# Altium footprint library 通讯接口.PcbLib: 40 footprints (part 2 of 3)
Each footprint in its own frame and in the unit in brackets; x right, y up, seen from the top. Pads: shape width x height; smd on the part's side, far side on the other; paste and mask are expansions set on the pad; w line width, h text height; cw(c..) or ccw(c..) is an arc to the next point about the centre after c.
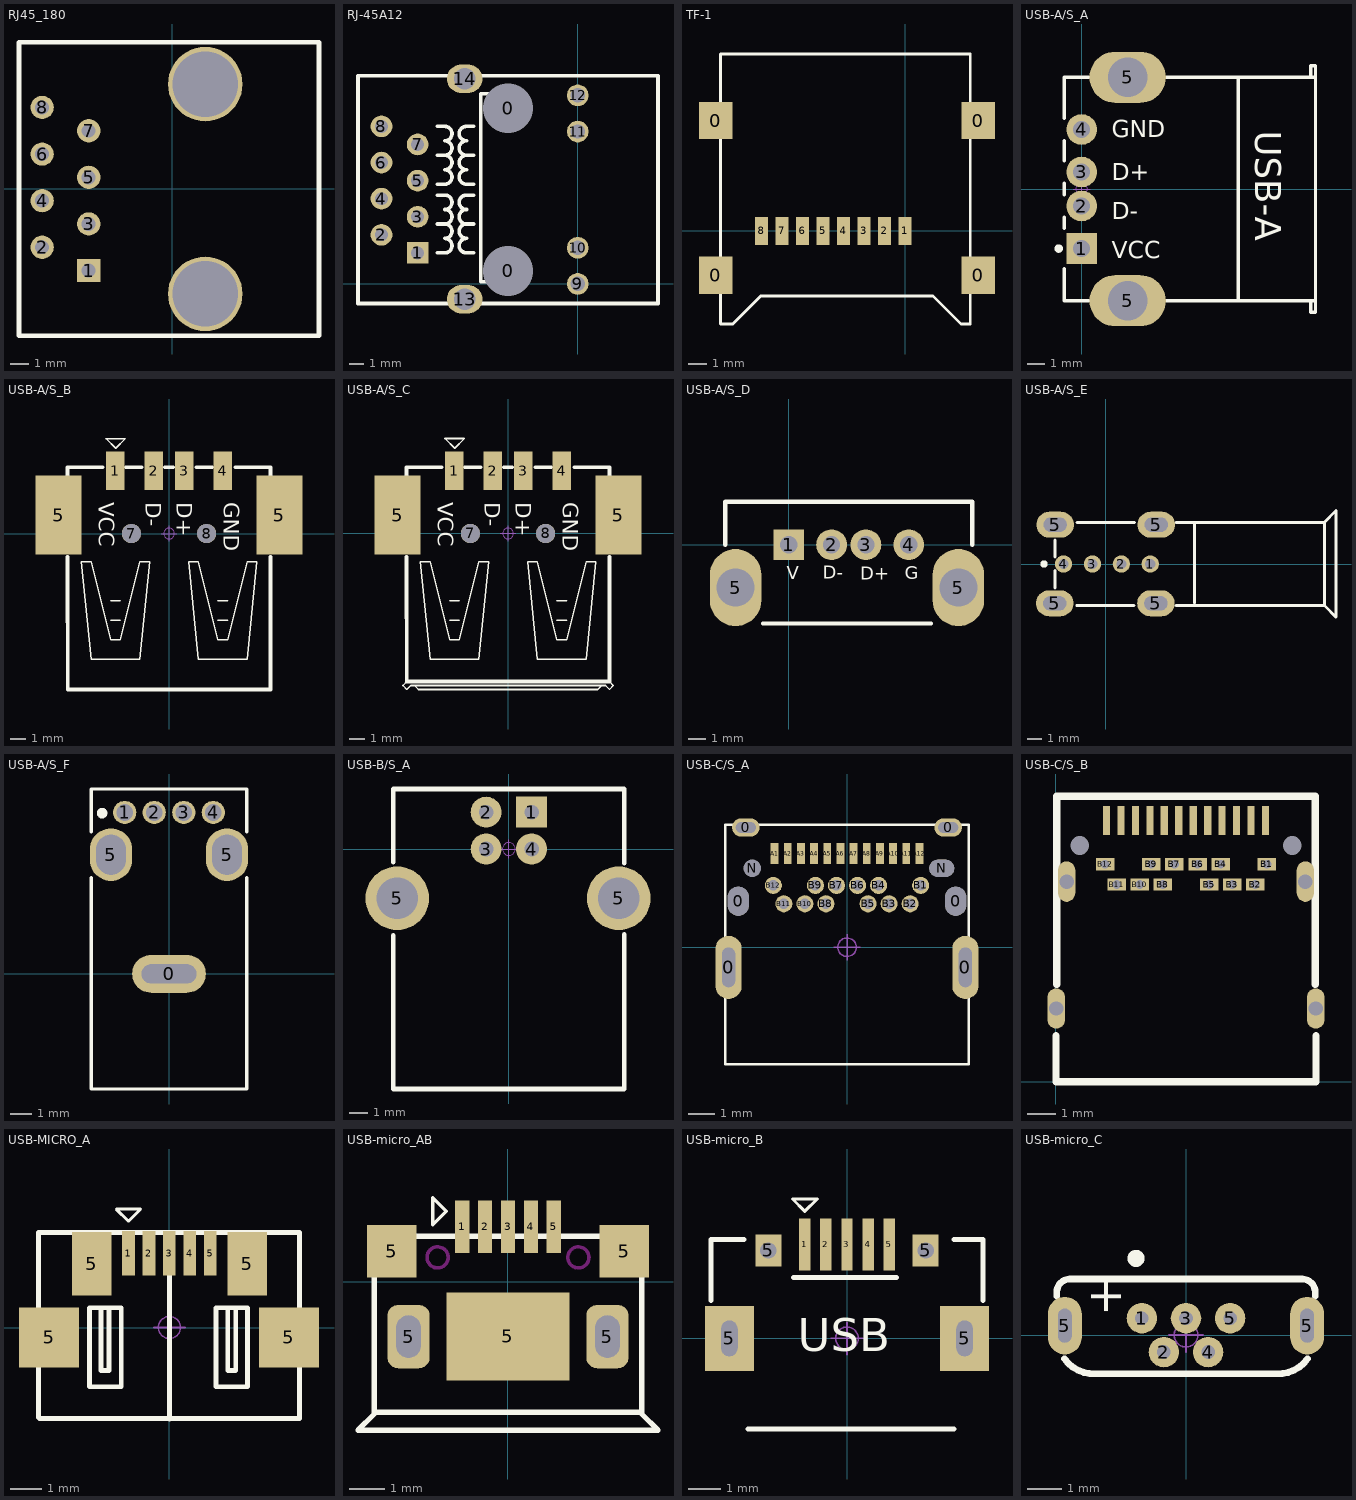
[diagram p1: the footprints below, top view; thin cyan lines are the x and y axes]

## RJ45_180 [mil] "网线接口"
height 53.15
pads (10):
  rect 50x50 hole 30: 1(-179.13,-175)
  round 50 hole 30: 2(-279.13,-125) 3(-179.13,-75) 4(-279.13,-25) 5(-179.13,25) 6(-279.13,75) 7(-179.13,125) 8(-279.13,175)
  round 160 hole 140: ""(70.87,-225) ""(70.87,225)
Top Overlay:
  lines w10: -328.74,-314.96 -328.74,314.96 314.96,314.96 314.96,-314.96 -328.74,-314.96
3D body "RJ-45, 8P8C, MOD JACK, TOP ENTRY, CAT 5E, RIA AJT26A8813.STEP": height 641.73, standoff -129.92, extent -313.88,-296.61 308.16,313.62

## RJ-45A12 [mil] "网线接口"
pads (16):
  round 130 hole 137.8: 0(-192.91,35.83) 0(-192.91,485.83)
  rect 60x60 hole 35.43: 1(-442.91,85.83)
  round 60 hole 35.43: 2(-542.91,135.83) 3(-442.91,185.83) 4(-542.91,235.83) 5(-442.91,285.83) 6(-542.91,335.83) 7(-442.91,385.83) 8(-542.91,435.83)
  round 60 hole 40: 9(0,0) 10(0,100) 11(0,421.65) 12(0,521.65)
  oval 98.43x78.74 hole 59.06: 13(-312.99,-42.13) 14(-312.99,567.32)
Top Overlay:
  lines w10: -387.91,85.83 -367.91,85.83 ccw(c-367.91,105.83) -367.91,125.83 ccw(c-367.91,145.83) -367.91,165.83 ; -387.91,165.83 -367.91,165.83 ; -387.91,245.83 -367.91,245.83 cw(c-367.91,225.83) -367.91,205.83 cw(c-367.91,185.83) -367.91,165.83 ; -387.91,275.83 -367.91,275.83 ccw(c-367.91,295.83) -367.91,315.83 ccw(c-367.91,335.83) -367.91,355.83 ; -387.91,355.83 -367.91,355.83 ; -387.91,435.83 -367.91,435.83 cw(c-367.91,415.83) -367.91,395.83 cw(c-367.91,375.83) -367.91,355.83 ; -287.91,85.83 -307.91,85.83 cw(c-307.91,105.83) -307.91,125.83 cw(c-307.91,145.83) -307.91,165.83 ; -287.91,165.83 -307.91,165.83 ; -287.91,245.83 -307.91,245.83 ccw(c-307.91,225.83) -307.91,205.83 ccw(c-307.91,185.83) -307.91,165.83 ; -287.91,275.83 -307.91,275.83 cw(c-307.91,295.83) -307.91,315.83 cw(c-307.91,335.83) -307.91,355.83 ; -287.91,355.83 -307.91,355.83 ; -287.91,435.83 -307.91,435.83 ccw(c-307.91,415.83) -307.91,395.83 ccw(c-307.91,375.83) -307.91,355.83 ; -247.91,5.83 -267.91,5.83 -267.91,525.83 -247.91,525.83 ; -607.91,-54.17 222,-54.17 222,575.83 -607.91,575.83 -607.91,-54.17
Multi-Layer:
  text "J10" at -517.7,505.32 h25
3D body "HanRun-HR911105A.STEP": height 59.06, standoff -590.55, extent -605.26,-53 237.26,572.19

## TF-1 [mm]
height 2
pads (12):
  rect 1.8x2 smd: 0(-10.168,-2.378) 0(-10.168,5.922) 0(3.932,-2.378) 0(3.932,5.922)
  rect 0.7x1.5 smd: 1(0,0) 2(-1.1,0) 3(-2.2,0) 4(-3.3,0) 5(-4.4,0) 6(-5.5,0) 7(-6.6,0) 8(-7.7,0)
Top Overlay:
  lines w0.152: -9.9,-5 -9.25,-5 -7.75,-3.5 1.5,-3.5 3,-5 3.5,-5 3.5,9.5 0,9.5 -9.9,9.5 -9.9,-5
3D body "User Library-5009010801.STEP": height 1.93, standoff -0.02, extent -10.5,-5 4.1,9.5

## USB-A/S_A [mm] "A型直插母头，"
height 7.01
pads (6):
  rect 1.8x1.8 hole 1: 1(0,-3.5)
  round 1.8 hole 1: 2(0,-1) 3(0,1) 4(0,3.5)
  oval 4.5x3 hole 2.3: 5(2.71,-6.57) 5(2.71,6.57)
Top Overlay:
  circle w0.25: c-1.35,-3.5 r0.125
  lines w0.2: -1.01,-4.7 -1.01,-6.565 0.41,-6.565 ; -1.01,-2.3 -1.01,-1.66 ; -1.01,-0.34 -1.01,0.34 ; -1.01,1.66 -1.01,2.84 ; -1.01,4.16 -1.01,6.565 0.41,6.565 ; 5.01,-6.565 13.752,-6.565 ; 5.01,6.565 13.752,6.565 ; 13.462,-6.565 13.462,-7.25 13.752,-7.25 13.752,7.25 13.462,7.25 13.462,6.565
  lines w0.203: 9.21,-6.565 9.21,6.565
  text "GND" at 1.778,3.048 h1.02
  text "D+" at 1.778,0.508 h1.02
  text "D-" at 1.778,-1.778 h1.02
  text "VCC" at 1.778,-4.064 h1.02
  text "USB-A" at 10.21,3.43 h1.52
Mechanical 15:
  circle w0.05: c0,0 r0.35
  lines w0.05: -0.5,0 0.5,0 ; 0,-0.5 0,0.5
3D body "USB A型 ?": height 6.8, standoff -4.31, extent -0.605,-7.342 13.7,7.342

## USB-A/S_B [mm] "A型贴片母头，"
pads (8):
  rect 1.2x2.5 smd: 1(-3.5,4.1) 2(-1,4.1) 3(1,4.1) 4(3.5,4.1)
  rect 3x5.15 smd: 5(-7.2,1.2) 5(7.2,1.2)
  round 1.25 hole 1.25 unplated: 7(-2.45,0) 8(2.45,0)
Top Overlay:
  lines w0.1: -3.803,-5.649 -3.168,-5.649 ; -3.803,-4.379 -3.168,-4.379 ; 3.182,-5.649 3.817,-5.649 ; 3.182,-4.379 3.817,-4.379 ; -5.708,-1.839 -5.073,-8.189 -1.898,-8.189 -1.263,-1.839 -1.898,-1.839 -3.168,-6.919 -3.803,-6.919 -5.073,-1.839 -5.708,-1.839 ; -4.113,6.19 -3.478,5.555 -2.843,6.19 -4.113,6.19 ; 1.277,-1.839 1.912,-8.189 5.087,-8.189 5.722,-1.839 5.087,-1.839 3.817,-6.919 3.182,-6.919 1.912,-1.839 1.277,-1.839
  lines w0.254: -6.604,-1.524 -6.597,-10.16 6.611,-10.16 6.604,-1.524 ; -6.604,3.81 -6.604,4.318 -4.318,4.318 ; -2.794,4.318 -1.778,4.318 ; -0.254,4.318 0.254,4.318 ; 1.778,4.318 2.794,4.318 ; 4.318,4.318 6.611,4.318 6.604,3.81
  text "GND" at 3.556,2.032 h1.02
  text "D+" at 0.508,2.032 h1.02
  text "D-" at -1.524,2.032 h1.02
  text "VCC" at -4.572,2.032 h1.02
Mechanical 15:
  circle w0.05: c0,0 r0.35
  lines w0.05: -0.5,0 0.5,0 ; 0,-0.5 0,0.5
3D body "USB A型 ?": height 6.9, standoff -0.55, extent -7.75,-9.9 7.75,4.8

## USB-A/S_C [mm] "A型贴片母头，"
pads (8):
  rect 1.2x2.5 smd: 1(-3.5,4.1) 2(-1,4.1) 3(1,4.1) 4(3.5,4.1)
  rect 3x5.15 smd: 5(-7.2,1.2) 5(7.2,1.2)
  round 1.25 hole 1.25 unplated: 7(-2.45,0) 8(2.45,0)
Top Overlay:
  lines w0.1: -6.597,-9.652 -6.851,-9.906 -6.597,-10.16 -6.343,-9.906 -6.089,-9.906 ; -3.803,-5.649 -3.168,-5.649 ; -3.803,-4.379 -3.168,-4.379 ; 3.182,-5.649 3.817,-5.649 ; 3.182,-4.379 3.817,-4.379 ; 6.611,-9.652 6.865,-9.906 6.611,-10.16 6.357,-9.906 6.103,-9.906 ; -6.089,-9.906 6.103,-9.906 ; -6.089,-9.906 -5.835,-10.166 5.849,-10.166 6.103,-9.906 ; -5.708,-1.839 -5.073,-1.839 -3.803,-6.919 -3.168,-6.919 -1.898,-1.839 -1.263,-1.839 -1.898,-8.189 -5.073,-8.189 -5.708,-1.839 ; -4.113,6.19 -2.843,6.19 -3.478,5.555 -4.113,6.19 ; 1.277,-1.839 1.912,-1.839 3.182,-6.919 3.817,-6.919 5.087,-1.839 5.722,-1.839 5.087,-8.189 1.912,-8.189 1.277,-1.839
  lines w0.254: -6.604,-1.524 -6.597,-9.652 ; -6.604,3.81 -6.604,4.318 -4.318,4.318 ; -6.597,-9.652 6.611,-9.652 ; -2.794,4.318 -1.778,4.318 ; -0.254,4.318 0.254,4.318 ; 1.778,4.318 2.794,4.318 ; 4.318,4.318 6.611,4.318 6.604,3.81 ; 6.604,-1.524 6.611,-9.652
  text "VCC" at -4.572,2.032 h1.02
  text "D-" at -1.524,2.032 h1.02
  text "D+" at 0.508,2.032 h1.02
  text "GND" at 3.556,2.032 h1.02
Mechanical 15:
  circle w0.05: c0,0 r0.35
  lines w0.05: -0.5,0 0.5,0 ; 0,-0.5 0,0.5
3D body "USB A型 ?": height 7.4, standoff -0.55, extent -7.75,-9.9 7.75,4.8

## USB-A/S_D [mm] "A型直插母头，"
pads (6):
  rect 1.8x1.8 hole 1: 1(0,0)
  round 1.8 hole 1: 2(2.5,0) 3(4.5,0) 4(7,0)
  oval 3x4.5 hole 2.2: 5(-3.1,-2.5) 5(9.9,-2.5)
Top Overlay:
  lines w0.254: -3.7,0 -3.7,2.5 10.7,2.5 10.7,0 ; -1.5,-4.6 8.3,-4.6
  text "D-" at 1.996,-1.981 h0.76
  text "D+" at 4.181,-2.032 h0.76
  text "G" at 6.771,-2.007 h0.76
  text "V" at -0.112,-2.007 h0.76
Mechanical 1:
  lines w0.254: -0.2,-0.2 cw(c0,-0.2) 0,0
3D body "USB-H.stp": height 14, standoff -4, extent -3.705,-4.599 10.695,2.501

## USB-A/S_E [mm] "A型直插母头，"
pads (8):
  round 1.2 hole 0.7: 1(3.094,0) 2(1.094,0) 3(-0.906,0) 4(-2.906,0)
  oval 2.6x1.8 hole 1 slot 1.6 at 0 deg: 5(-3.513,-2.718) 5(-3.487,2.718) 5(3.487,-2.718) 5(3.513,2.718)
Top Overlay:
  circle w0.25: c-4.256,0 r0.125
  lines w0.127: -3.513,-2.718 -3.487,-2.692
  lines w0.2: -1.996,-2.878 1.97,-2.878 ; -1.97,2.878 1.996,2.878 ; 4.881,-2.88 15.146,-2.88 15.146,2.896 ; 4.881,2.88 15.146,2.88
  lines w0.203: -3.487,-1.651 -3.487,-0.455 ; -3.487,0.481 -3.487,1.651 ; 6.17,-2.71 6.17,2.751 ; 15.146,-2.88 15.949,-3.683 15.949,3.698 15.146,2.896
3D body "USB-4H4.stp": height 14.45, standoff -3.69, extent -4.071,-3.606 15.179,3.644

## USB-A/S_F [mm] "A型侧插短体无卷边 90度母座"
pads (7):
  oval 3.5x1.8 hole 0.9 slot 2.6 at 0 deg: 0(0,0)
  round 1.1 hole 0.8: 1(-2.1,7.65) 2(-0.7,7.65) 3(0.7,7.65) 4(2.1,7.65)
  oval 2x2.5 hole 1.4 slot 1.9 at 90 deg: 5(-2.75,5.65) 5(2.75,5.65)
Top Overlay:
  circle w0.25: c-3.173,7.62 r0.125
  lines w0.152: -3.683,4.572 -3.683,-5.461 3.683,-5.461 3.683,4.572 ; -3.683,6.731 -3.683,8.763 3.683,8.763 3.683,6.731
3D body "USB A型?": height 13.7, standoff -3.05, extent -3.56,-5.35 3.56,8.65

## USB-B/S_A [mm] "b型USB 母座 16.3*13.7*11mm"
height 1.1
pads (6):
  rect 1.7x1.7 hole 0.8: 1(1.25,2.032)
  round 1.7 hole 0.8: 2(-1.25,2.032) 3(-1.25,0) 4(1.25,0)
  round 3.5 hole 2.3: 5(-6.141,-2.71) 5(6.051,-2.71)
Top Overlay:
  lines w0.254: -6.35,-4.737 -6.35,-13.208 6.35,-13.208 6.35,-4.686 ; -6.35,-0.724 -6.35,3.302 6.35,3.302 6.35,-0.775
Mechanical 15:
  circle w0.05: c0,0 r0.35
  lines w0.05: -0.5,0 0.5,0 ; 0,-0.5 0,0.5
3D body "USB B型 ?": height 11.45, standoff -2.95, extent -6.86,-13.16 6.859,3.14

## USB-C/S_A [mm]
pads (32):
  oval 1x2.4 hole 0.5 slot 1.5 at 90 deg: 0(-4.5,-0.765) 0(4.5,-0.765)
  oval 0.8x1.1 hole 0.8 slot 1.1 at 90 deg: 0(-4.13,1.75) 0(4.13,1.75)
  oval 1.05x0.7 hole 0.4 slot 0.75 at 0 deg: 0(-3.845,4.55) 0(3.845,4.55)
  rect 0.3x0.8 smd: A1(-2.75,3.56) A2(-2.25,3.56) A3(-1.75,3.56) A4(-1.25,3.56) A5(-0.75,3.56) A6(-0.25,3.56) A7(0.25,3.56) A8(0.75,3.56) A9(1.25,3.56) A10(1.75,3.56) A11(2.25,3.56) A12(2.75,3.56)
  round 0.65 hole 0.4: B1(2.8,2.35) B2(2.4,1.65) B3(1.6,1.65) B4(1.2,2.35) B5(0.8,1.65) B6(0.4,2.35) B7(-0.4,2.35) B8(-0.8,1.65) B9(-1.2,2.35) B10(-1.6,1.65) B11(-2.4,1.65) B12(-2.8,2.35)
  round 0.65 hole 0.65: N(-3.6,3)
  oval 0.95x0.65 hole 0.65 slot 0.95 at 0 deg: N(3.6,3)
Top Overlay:
  lines w0.1: -4.625,-4.45 -4.625,4.65 4.625,4.65 4.625,-4.45 -4.625,-4.45
Mechanical 15:
  circle w0.05: c0,0 r0.35
  lines w0.05: -0.5,0 0.5,0 ; 0,-0.5 0,0.5
3D body "type-Cĸ?": height 3.35, standoff -0.9, extent -4.625,-4.45 4.625,4.65

## USB-C/S_B [mm]
pads (30):
  rect 0.25x1 smd: A1(1.75,9.037) A2(2.25,9.037) A3(2.75,9.037) A4(3.25,9.037) A5(3.75,9.037) A6(4.25,9.037) A7(4.75,9.037) A8(5.25,9.037) A9(5.75,9.037) A10(6.25,9.037) A11(6.75,9.037) A12(7.25,9.037)
  rect 0.64x0.42 hole 0.3: B1(7.3,7.52) B2(6.9,6.82) B3(6.1,6.82) B4(5.7,7.52) B5(5.3,6.82) B6(4.9,7.52) B7(4.1,7.52) B8(3.7,6.82) B9(3.3,7.52) B10(2.9,6.82) B11(2.1,6.82) B12(1.7,7.52)
  oval 0.6x1.4 hole 0.5: ""(0.01,2.53) ""(0.37,6.92) ""(8.63,6.92) ""(8.99,2.53)
  round 0 hole 0.65: ""(0.825,8.17) ""(8.175,8.17)
Top Overlay:
  lines w0.254: 0,1.583 0,0 9,0 9,1.583 ; 0.025,3.37 0.025,9.87 8.975,9.87 8.975,3.37

## USB-MICRO_A [mm] "micro型USB ，5.9*8.2*2.5mm"
pads (9):
  rect 0.4x1.4 smd: 1(-1.296,2.355) 2(-0.648,2.355) 3(0,2.355) 4(0.648,2.355) 5(1.295,2.355)
  rect 1.9x1.9 smd: 5(-3.81,-0.312) 5(3.784,-0.312)
  rect 1.25x2 smd: 5(-2.464,2.025) 5(2.464,2.025)
Top Overlay:
  lines w0.1: -1.677,3.752 -1.296,3.371 -0.915,3.752 -1.677,3.752
  lines w0.152: -4.14,-2.852 -4.14,3.016 ; -4.115,-2.877 4.089,-2.877 ; -4.09,3.016 4.089,3.016 ; -2.165,0.628 -2.165,-1.357 -1.962,-1.357 -1.911,-1.357 -1.911,0.628 ; 0,-2.889 0,2.99 ; 1.848,0.628 1.848,-1.357 2.102,-1.357 2.102,0.628 ; 4.115,-2.877 4.115,3.016 ; -2.526,-1.872 -2.526,0.628 -1.526,0.628 -1.526,-1.872 -2.526,-1.872 ; 1.474,-1.872 2.474,-1.872 2.474,0.628 1.474,0.628 1.474,-1.872
Mechanical 15:
  circle w0.05: c0,0.006 r0.35
  lines w0.05: -0.5,0.006 0.5,0.006 ; 0,-0.494 0,0.506
3D body "USB-MICRO B型 ?": height 2.69, standoff -0.24, extent -3.982,-2.772 3.982,2.65

## USB-micro_AB [mm] "micro型USB ，5.7*7.8*2.5mm"
pads (10):
  rect 0.4x1.5 smd: 1(-1.3,1.561) 2(-0.65,1.561) 3(0,1.561) 4(0.65,1.561) 5(1.3,1.561)
  rect 1.397x1.5 smd: 5(-3.302,0.861) 5(3.302,0.861)
  rrect50% 1.2x1.8 hole 0.7 slot 1.2 at 90 deg: 5(-2.825,-1.561) 5(2.825,-1.561)
  rect 3.5x2.5 smd: 5(0,-1.552)
Top Overlay:
  lines w0.1: -2.138,1.618 -2.138,2.38 -1.757,1.999 -2.138,1.618
  lines w0.152: -3.8,-3.711 3.753,-3.711 3.8,-3.758 ; 3.8,-3.758 3.8,1.289 0,1.289 -3.8,1.289 -3.8,-3.758 -4.261,-4.219 4.261,-4.219 3.8,-3.758
Keep-Out Layer:
  circle w0.102: c-2,0.689 r0.3
  circle w0.102: c2,0.689 r0.3
3D body "USB micro_B.STEP": height 2.8, standoff -1.35, extent -4.027,-4.041 3.976,1.559

## USB-micro_B [mm] "micro型USB ，5.7*7.8*2.5mm"
pads (9):
  rect 0.35x1.6 smd: 1(-1.3,2.9) 2(-0.65,2.9) 3(0,2.9) 4(0.65,2.9) 5(1.3,2.9)
  rect 1.5x2 hole 0.5 slot 1.1 at 90 deg: 5(-3.625,0) 5(3.625,0)
  rect 0.8x1 hole 0.5: 5(-2.425,2.71) 5(2.425,2.71)
Top Overlay:
  lines w0.1: -1.681,4.297 -1.3,3.916 -0.919,4.297 -1.681,4.297
  lines w0.152: -4.191,1.168 -4.191,3.048 -3.175,3.048 ; -3.048,-2.794 3.302,-2.794 ; -1.65,1.875 1.525,1.875 ; 3.302,3.048 4.191,3.048 4.191,1.168
  text "USB" at -1.524,-0.402 h1.02
Mechanical 15:
  circle w0.05: c0,0 r0.35
  lines w0.05: -0.5,0 0.5,0 ; 0,-0.5 0,0.5
3D body "USB micro_A.STEP": height 2.8, standoff -0.95, extent -4.001,-2.71 4.001,2.89

## USB-micro_C [mm] "micro型USB ，5.7*7.8*2.5mm"
pads (7):
  round 0.9 hole 0.4: 1(-1.3,0.5) 2(-0.65,-0.5) 3(0,0.5) 4(0.65,-0.5) 5(1.3,0.5)
  oval 1x1.7 hole 0.4 slot 1 at 90 deg: 5(-3.575,0.28) 5(3.575,0.28)
Top Overlay:
  circle w0.254: c-1.473,2.261 r0.127
  lines w0.2: -3.81,1.143 -3.81,1.27 cw(c-3.429,1.27) -3.429,1.651 -3.175,1.651 -2.794,1.651 2.794,1.651 3.175,1.651 3.429,1.651 cw(c3.429,1.27) 3.81,1.27 3.81,1.143 ; -3.587,-0.697 ccw(c-2.718,-0.076) -2.667,-1.143 ; -2.629,-1.143 -2.413,-1.143 2.413,-1.143 2.667,-1.143 ccw(c2.718,-0.076) 3.587,-0.697
  text "+" at -1.905,0.559 h1.02
Mechanical 15:
  circle w0.05: c0,0 r0.35
  lines w0.05: -0.5,0 0.5,0 ; 0,-0.5 0,0.5
3D body "USB micro_C.STEP": height 5.65, standoff -1.55, extent -4.001,-1.207 4.001,1.767